# Altium schematic symbol library LTC3780UH.SchLib: 1 symbol
Pins are listed as number, name and electrical type; pins without a type are passive.

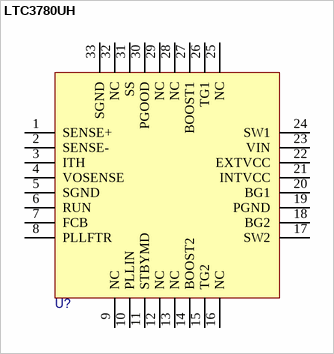
[diagram p0: symbol LTC3780UH]

## LTC3780UH
designator U?
pins: 1 SENSE+, 2 SENSE-, 3 ITH, 4 VOSENSE, 5 SGND, 6 RUN, 7 FCB, 8 PLLFTR, 9 NC, 10 PLLIN, 11 STBYMD, 12 NC, 13 NC, 14 BOOST2, 15 TG2, 16 NC, 17 SW2, 18 BG2, 19 PGND, 20 BG1, 21 INTVCC, 22 EXTVCC, 23 VIN, 24 SW1, 25 NC, 26 TG1, 27 BOOST1, 28 NC, 29 NC, 30 PGOOD, 31 SS, 32 NC, 33 SGND